# Altium footprint library Esp32S.PcbLib: 16 footprints
Each footprint in its own frame and in the unit in brackets; x right, y up, seen from the top. Pads: shape width x height; smd on the part's side, far side on the other; paste and mask are expansions set on the pad; w line width, h text height; cw(c..) or ccw(c..) is an arc to the next point about the centre after c.
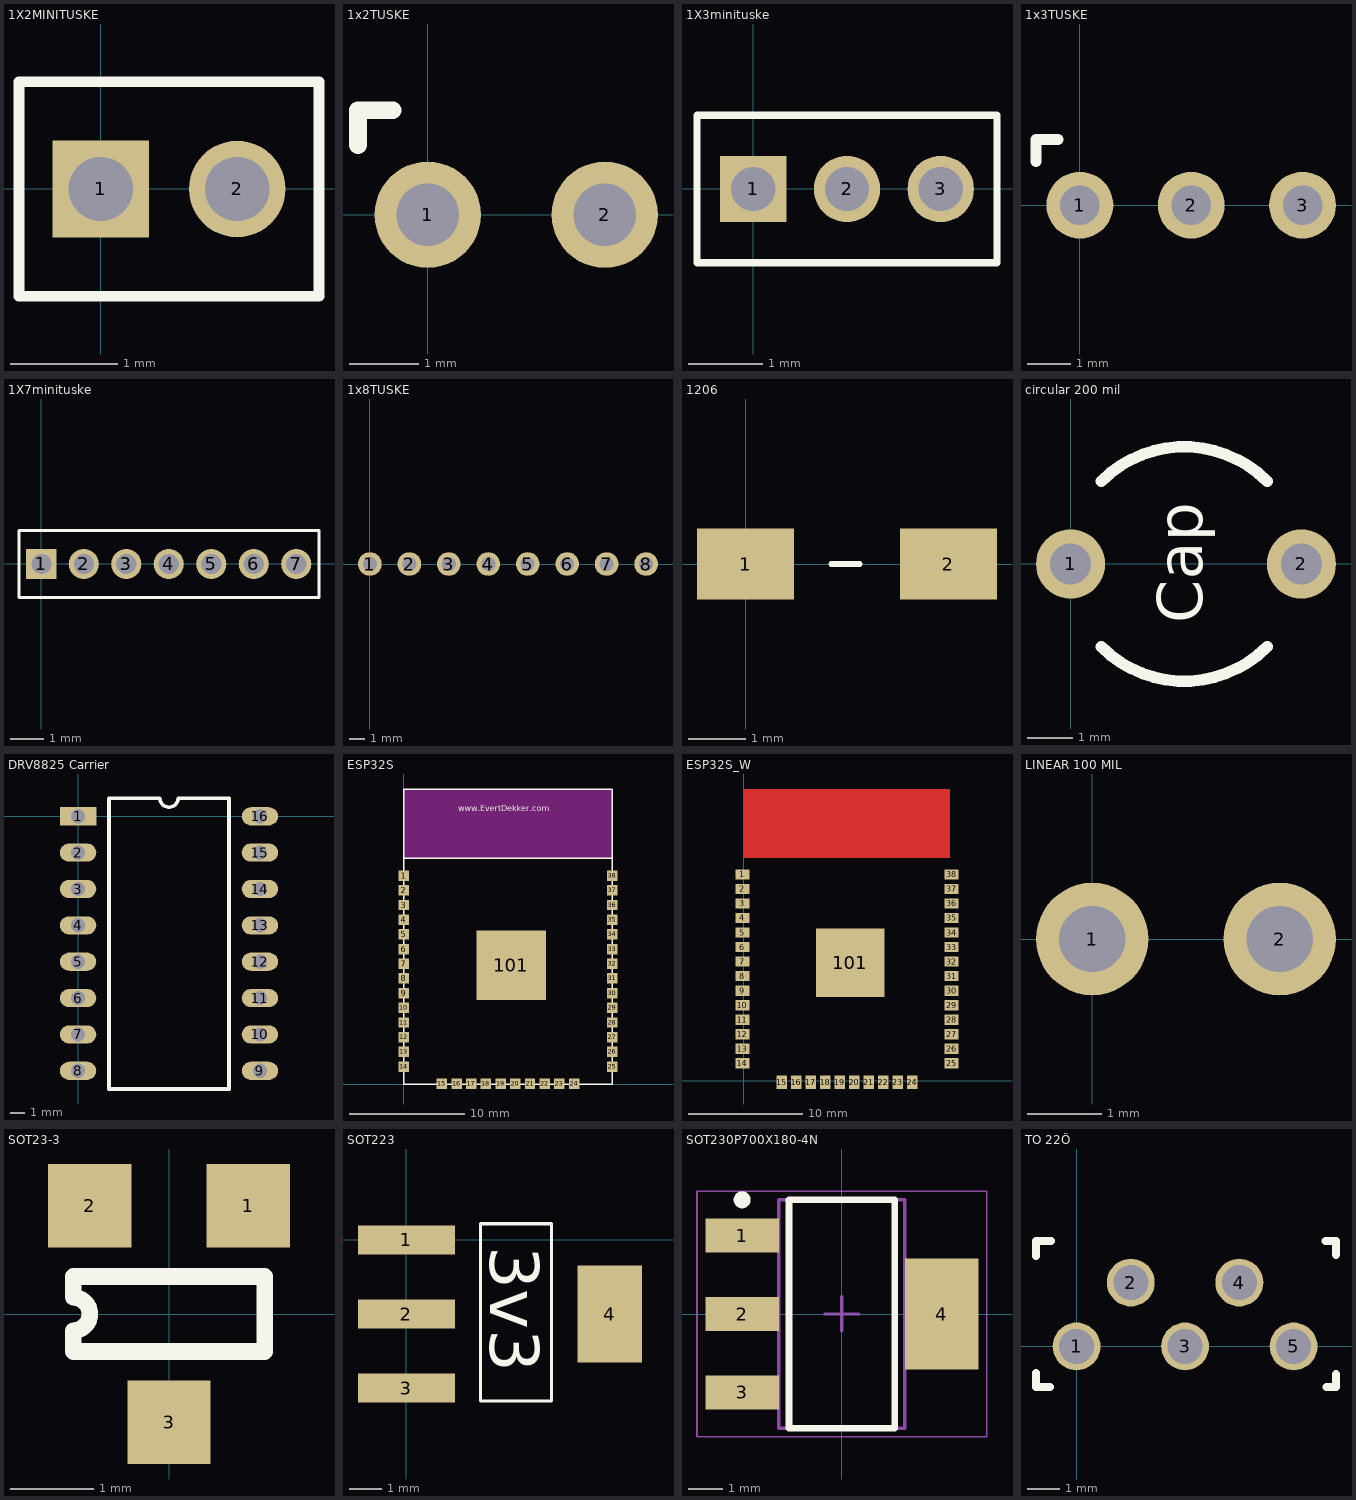
[diagram p0: the footprints below, top view; thin cyan lines are the x and y axes]

## 1X2MINITUSKE [mm] "Connector; Header; 2 Position; Right Angle"
height 4.1
pads (2):
  rect 0.9x0.9 hole 0.6: 1(0,0)
  round 0.9 hole 0.6: 2(1.27,0)
Top Overlay:
  lines w0.1: -0.762,-1 2.032,-1 2.032,1 -0.762,1 -0.762,-1

## 1x2TUSKE [mil]
height 196.85
pads (2):
  round 60 hole 35.43: 1(0,0) 2(100,0)
Top Overlay:
  lines w10: -39.37,39.37 -39.37,59.06 -19.68,59.06

## 1X3minituske [mm] "Connector; Header; 3 Position; Right Angle"
height 4.1
pads (3):
  rect 0.9x0.9 hole 0.6: 1(0,0)
  round 0.9 hole 0.6: 2(1.27,0) 3(2.54,0)
Top Overlay:
  lines w0.1: -0.762,-1 -0.762,1 3.302,1 3.302,-1 -0.762,-1

## 1x3TUSKE [mil]
height 196.85
pads (3):
  round 60 hole 35.43: 1(0,0) 2(100,0) 3(200,0)
Top Overlay:
  lines w10: -39.37,39.37 -39.37,59.06 -19.68,59.06

## 1X7minituske [mm] "Connector; Header; 7 Position; Right Angle"
height 4.1
pads (7):
  rect 0.9x0.9 hole 0.6: 1(0,0)
  round 0.9 hole 0.6: 2(1.27,0) 3(2.54,0) 4(3.81,0) 5(5.08,0) 6(6.35,0) 7(7.62,0)
Top Overlay:
  lines w0.1: -0.666,-1 8.3,-1 8.3,1 -0.666,1 -0.666,-1
3D body "1x7MINITUSKE.STEP": height 2.5, standoff -2, extent -0.635,-1.016 8.255,1.016

## 1x8TUSKE [mil]
height 196.85
pads (8):
  round 60 hole 35.43: 1(0,0) 2(100,0) 3(200,0) 4(300,0) 5(400,0) 6(500,0) 7(600,0) 8(700,0)

## 1206 [mm]
pads (2):
  rect 1.7x1.25 smd: 1(0,0) 2(3.55,0)
Top Overlay:
  lines w0.1: 1.5,0 2,0

## circular 200 mil [mil]
height 196.85
pads (2):
  round 60 hole 35.43: 1(0,0) 2(200,0)
Top Overlay:
  lines w10: 26.6,-71.82 ccw(c98.43,0) 170.25,-71.82 ; 26.6,71.82 cw(c98.43,0) 170.25,71.82
  text "Cap" at 114.17,-51.18 h39.37

## DRV8825 Carrier [mm]
pads (16):
  rect 2.54x1.27 hole 1: 1(0,0)
  oval 2.54x1.27 hole 1: 2(0,-2.54) 3(0,-5.08) 4(0,-7.62) 5(0,-10.16) 6(0,-12.7) 7(0,-15.24) 8(0,-17.78) 9(12.7,-17.78) 10(12.7,-15.24) 11(12.7,-12.7) 12(12.7,-10.16) 13(12.7,-7.62) 14(12.7,-5.08) 15(12.7,-2.54) 16(12.7,0)
Top Overlay:
  lines w0.254: 2.159,-19.05 2.159,1.27 5.715,1.27 ccw(c6.35,1.27) 6.985,1.27 10.541,1.27 10.541,-19.05 2.159,-19.05

## ESP32S [mm] "ESP32S-Module"
height 2.8
pads (39):
  rect 0.9x0.9 smd: 1(0,18.034) 2(0,16.764) 3(0,15.494) 4(0,14.224) 5(0,12.954) 6(0,11.684) 7(0,10.414) 8(0,9.144) 9(0,7.874) 10(0,6.604) 11(0,5.334) 12(0,4.064) 13(0,2.794) 14(0,1.524) 15(3.3,0.034) 16(4.57,0.034) 17(5.84,0.034) 18(7.11,0.034) 19(8.38,0.034) 20(9.65,0.034) 21(10.92,0.034) 22(12.19,0.034) 23(13.46,0.034) 24(14.73,0.034) 25(18.034,1.524) 26(18.034,2.794) 27(18.034,4.064) 28(18.034,5.334) 29(18.034,6.604) 30(18.034,7.874) 31(18.034,9.144) 32(18.034,10.414) 33(18.034,11.684) 34(18.034,12.954) 35(18.034,14.224) 36(18.034,15.494) 37(18.034,16.764) 38(18.034,18.034)
  rect 6x6 smd: 101(9.3,10.3)
Top Overlay:
  lines w0.127: 0,19.558 18.034,19.558 ; 0,0 18.034,0 18.034,25.527 0,25.527 0,0
  text "www.EvertDekker.com" at 4.699,23.622 h0.5
Keep-Out Layer:
  rectangle: 0,19.558 18.034,25.527
3D body: height 2, standoff 0.8, extent 0.635,0.635 17.526,19.558
3D body: height 0.8, standoff 0, extent 0,0 18.034,25.527

## ESP32S_W [mm] "Esp32S Module wide for hand soldering"
pads (39):
  rect 1.2x0.9 smd: 1(-0.127,18.034) 2(-0.127,16.764) 3(-0.127,15.494) 4(-0.127,14.224) 5(-0.127,12.954) 6(-0.127,11.684) 7(-0.127,10.414) 8(-0.127,9.144) 9(-0.127,7.874) 10(-0.127,6.604) 11(-0.127,5.334) 12(-0.127,4.064) 13(-0.127,2.794) 14(-0.127,1.524) 25(18.161,1.524) 26(18.161,2.794) 27(18.161,4.064) 28(18.161,5.334) 29(18.161,6.604) 30(18.161,7.874) 31(18.161,9.144) 32(18.161,10.414) 33(18.161,11.684) 34(18.161,12.954) 35(18.161,14.224) 36(18.161,15.494) 37(18.161,16.764) 38(18.161,18.034)
  rect 0.9x1.2 smd: 15(3.302,-0.127) 16(4.57,-0.127) 17(5.84,-0.127) 18(7.11,-0.127) 19(8.38,-0.127) 20(9.65,-0.127) 21(10.92,-0.127) 22(12.19,-0.127) 23(13.46,-0.127) 24(14.73,-0.127)
  rect 6x6 smd: 101(9.3,10.3)
Top Layer:
  pour cut-out: 0,25.5 9,25.5 18,25.5 18,19.5 0,19.5
Bottom Layer:
  pour cut-out: 0,25.5 18,25.5 18,19.5 0,19.5
3D body: height 0.8, standoff 0, extent 0,0 18.034,25.527
3D body: height 2, standoff 0.8, extent 0.635,0.635 17.526,19.558

## LINEAR 100 MIL [mil]
height 196.85
pads (2):
  round 60 hole 35.43: 1(0,0) 2(100,0)

## SOT23-3 [mm] "SOT23-3"
pads (3):
  rect 1x1 smd: 1(0.95,1.3) 2(-0.95,1.3) 3(0,-1.3)
Top Overlay:
  lines w0.2: -1.15,-0.45 -1.15,-0.2 ccw(c-1.15,0) -1.15,0.2 -1.15,0.45 1.15,0.45 1.15,-0.45 -1.15,-0.45
3D body "SOT23-3.step": height 1.3, standoff 0, extent -1.45,-1.4 1.45,1.4

## SOT223 [mm]
pads (4):
  rect 3x0.9 smd: 1(0,0) 2(0,-2.3) 3(0,-4.6)
  rect 2x3 smd: 4(6.3,-2.3)
Top Overlay:
  lines w0.1: 2.3,-5 2.3,0.5 4.5,0.5 4.5,-5 2.3,-5
  text "3v3" at 2.6,-0.2 h1.52

## SOT230P700X180-4N [mm] "SOT223, 4-Leads, Body 6.50x7.00mm (avg), Pitch 2.30mm, IPC Medium Density"
height 1.8
pads (4):
  rect 2.15x1 smd: 1(-2.925,2.3) 2(-2.925,0) 3(-2.925,-2.3)
  rect 2.15x3.25 smd: 4(2.925,0)
Top Overlay:
  circle w0.25: c-2.925,3.35 r0.125
  lines w0.2: -1.55,-3.35 1.55,-3.35 1.55,3.35 -1.55,3.35 -1.55,-3.35
Mechanical 13:
  lines w0.1: -1.85,-3.35 1.85,-3.35 1.85,3.35 -1.85,3.35 -1.85,-3.35
Mechanical 15:
  lines w0.05: -4.25,-3.6 4.25,-3.6 4.25,3.6 -4.25,3.6 -4.25,-3.6
  lines w0.1: -0.5,0 0.5,0 ; 0,-0.5 0,0.5
3D body: height 1.8, standoff 0.02, extent -1.85,-3.35 1.85,3.35

## TO 22Ö [mm]
height 6
pads (5):
  round 1.5 hole 1.1: 1(0,0) 2(1.7,2) 3(3.4,0) 4(5.1,2) 5(6.8,0)
Top Overlay:
  lines w0.254: -1.27,-0.83 -1.27,-1.27 -0.83,-1.27 ; -1.27,2.83 -1.27,3.3 -0.8,3.3 ; 7.8,3.3 8.128,3.3 8.128,2.872 ; 7.83,-1.27 8.128,-1.27 8.128,-0.872